# Altium schematic symbol library transistor-small-signal.SCHLIB: 62 symbols
Pins are listed as number, name and electrical type; pins without a type are passive.

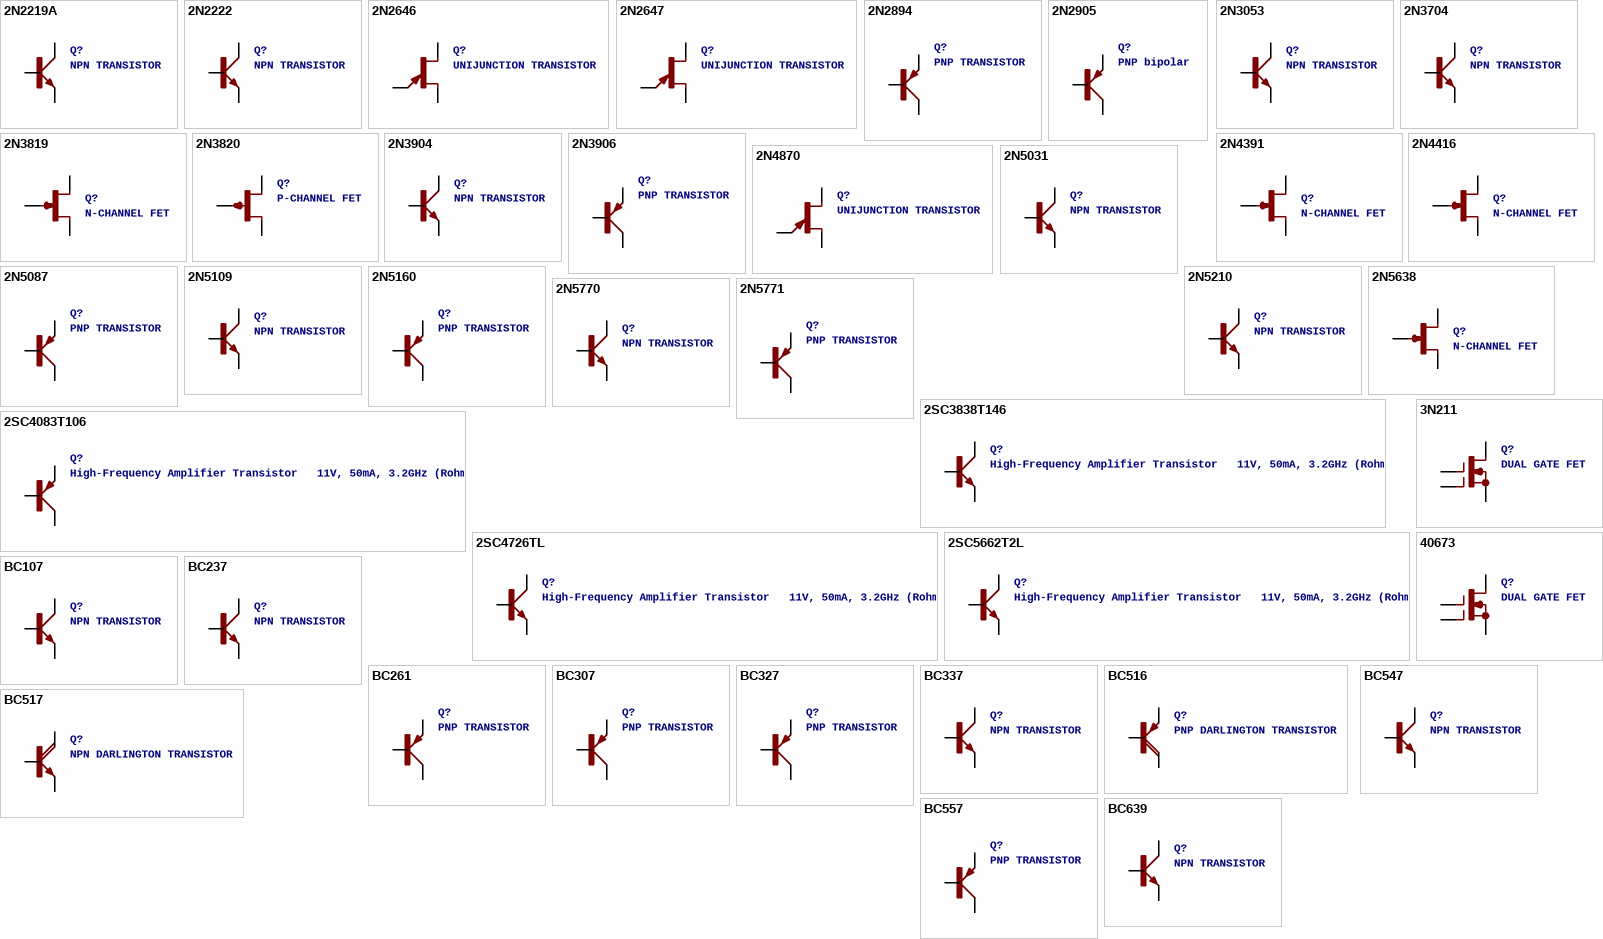
[diagram p0: symbols 2N2219A to BC639]

## 2N2219A
designator Q?, comment NPN TRANSISTOR
footprint TO5A
pins: B, C, E

## 2N2222
designator Q?, comment NPN TRANSISTOR
footprint TO18A
pins: B, C, E

## 2N2646
designator Q?, comment UNIJUNCTION TRANSISTOR
footprint TO72I
pins: B1, B2, E

## 2N2647
designator Q?, comment UNIJUNCTION TRANSISTOR
footprint TO72I
pins: B1, B2, E

## 2N2894
designator Q?, comment PNP TRANSISTOR
footprint TO18A
pins: B, C, E

## 2N2905
designator Q?, comment PNP bipolar
footprint TO39
pins: 1 E, 2 B, 3 C

## 2N3053
designator Q?, comment NPN TRANSISTOR
footprint TO39
pins: 1 E, 2 B, 3 C

## 2N3704
designator Q?, comment NPN TRANSISTOR
footprint TO92C
pins: B, C, E

## 2N3819
designator Q?, comment N-CHANNEL FET
footprint TO92F
pins: D, G, S

## 2N3820
designator Q?, comment P-CHANNEL FET
footprint TO92F
pins: D, G, S

## 2N3904
designator Q?, comment NPN TRANSISTOR
footprint TO92D
pins: B, C, E

## 2N3906
designator Q?, comment PNP TRANSISTOR
footprint TO92D
pins: B, C, E

## 2N4391
designator Q?, comment N-CHANNEL FET
footprint TO18E
pins: D, G, S

## 2N4416
designator Q?, comment N-CHANNEL FET
footprint TO72E
pins: D, G, S

## 2N4870
designator Q?, comment UNIJUNCTION TRANSISTOR
footprint TO92E
pins: B1, B2, E

## 2N5031
designator Q?, comment NPN TRANSISTOR
footprint TO72B
pins: B, C, E

## 2N5087
designator Q?, comment PNP TRANSISTOR
footprint TO92D
pins: B, C, E

## 2N5109
designator Q?, comment NPN TRANSISTOR
footprint TO5A
pins: B, C, E

## 2N5160
designator Q?, comment PNP TRANSISTOR
footprint TO5A
pins: B, C, E

## 2N5210
designator Q?, comment NPN TRANSISTOR
footprint TO92D
pins: B, C, E

## 2N5638
designator Q?, comment N-CHANNEL FET
footprint TO92G
pins: D, G, S

## 2N5770
designator Q?, comment NPN TRANSISTOR
footprint TO92D
pins: B, C, E

## 2N5771
designator Q?, comment PNP TRANSISTOR
footprint TO92D
pins: B, C, E

## 2SC3838T146
designator Q?, comment High-Frequency Amplifier Transistor   11V, 50mA, 3.2GHz (Rohm)
footprint SC59
pins: B, C, E

## 2SC4083T106
designator Q?, comment High-Frequency Amplifier Transistor   11V, 50mA, 3.2GHz (Rohm)
footprint SC70
pins: 1 B, 2 E, 3 C

## 2SC4726TL
designator Q?, comment High-Frequency Amplifier Transistor   11V, 50mA, 3.2GHz (Rohm)
footprint EMT3
pins: B, C, E

## 2SC5662T2L
designator Q?, comment High-Frequency Amplifier Transistor   11V, 50mA, 3.2GHz (Rohm)
footprint VMT3
pins: B, C, E

## 3N211
designator Q?, comment DUAL GATE FET
footprint TO72H
pins: D, G1, G2, S

## 40673
designator Q?, comment DUAL GATE FET
footprint TO72H
pins: D, G1, G2, S

## BC107
designator Q?, comment NPN TRANSISTOR
footprint TO18A
pins: B, C, E

## BC237
designator Q?, comment NPN TRANSISTOR
footprint SOT54A
pins: B, C, E

## BC261
designator Q?, comment PNP TRANSISTOR
footprint TO18A
pins: B, C, E

## BC307
designator Q?, comment PNP TRANSISTOR
footprint SOT54A
pins: B, C, E

## BC327
designator Q?, comment PNP TRANSISTOR
footprint SOT54A
pins: B, C, E

## BC337
designator Q?, comment NPN TRANSISTOR
footprint SOT54A
pins: B, C, E

## BC516
designator Q?, comment PNP DARLINGTON TRANSISTOR
footprint SOT54A
pins: B, C, E

## BC517
designator Q?, comment NPN DARLINGTON TRANSISTOR
footprint SOT54A
pins: B, C, E

## BC547
designator Q?, comment NPN TRANSISTOR
footprint SOT54A
pins: B, C, E

## BC557
designator Q?, comment PNP TRANSISTOR
footprint SOT54A
pins: B, C, E

## BC639
designator Q?, comment NPN TRANSISTOR
footprint SOT54D
pins: B, C, E

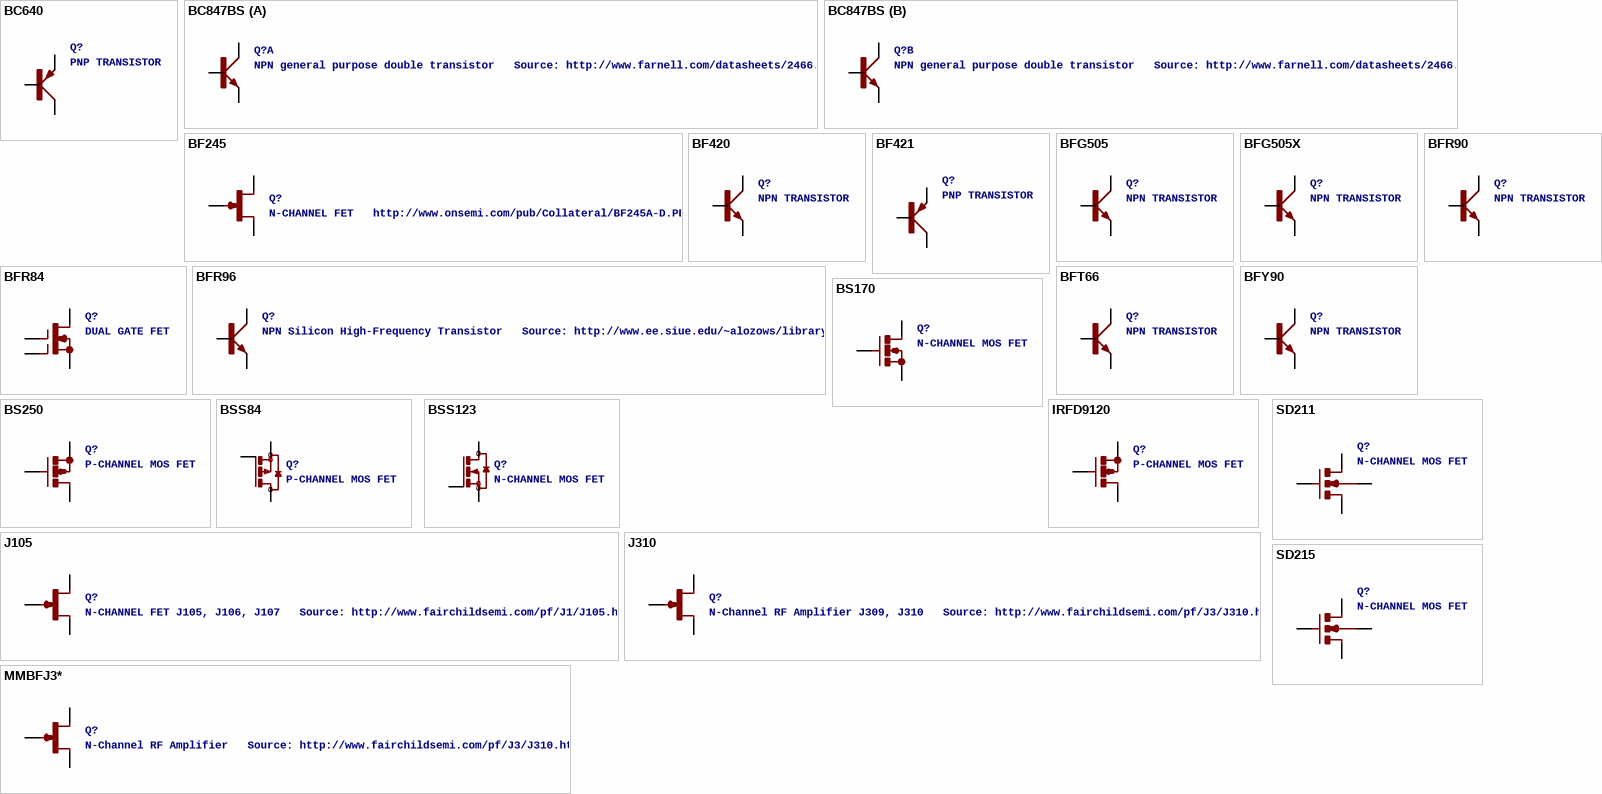
[diagram p1: symbols BC640 to SD215]

## BC640
designator Q?, comment PNP TRANSISTOR
footprint SOT54D
pins: B, C, E

## BC847BS
designator Q?, comment NPN general purpose double transistor   Source: http://www.farnell.com/datasheets/2466.pdf
footprint SOT363_PHILIPS
part A pins: 1 E, 2 B, 6 C
part B pins: 3 C, 4 E, 5 B

## BF245
designator Q?, comment N-CHANNEL FET   http://www.onsemi.com/pub/Collateral/BF245A-D.PDF
footprint SOT54C
pins: D, G, S

## BF420
designator Q?, comment NPN TRANSISTOR
footprint SOT54D
pins: B, C, E

## BF421
designator Q?, comment PNP TRANSISTOR
footprint SOT54D
pins: B, C, E

## BFG505
designator Q?, comment NPN TRANSISTOR
footprint SOT143B
pins: 1 C, 2 B, 3 4 E

## BFG505X
designator Q?, comment NPN TRANSISTOR
footprint SOT143B
pins: 1 C, 2 4 E, 3 B

## BFR84
designator Q?, comment DUAL GATE FET
footprint TO72H
pins: D, G1, G2, S

## BFR90
designator Q?, comment NPN TRANSISTOR
footprint SOT37
pins: 1 C, 2 E, 3 B

## BFR96
designator Q?, comment NPN Silicon High-Frequency Transistor   Source: http://www.ee.siue.edu/~alozows/library/datasheets/BFR96.pdf
footprint SOT37
pins: 1 C, 2 E, 3 B

## BFT66
designator Q?, comment NPN TRANSISTOR
footprint TO72A
pins: B, C, E

## BFY90
designator Q?, comment NPN TRANSISTOR
footprint TO72B
pins: B, C, E

## BS170
designator Q?, comment N-CHANNEL MOS FET
footprint SOT54E
pins: D, G, S

## BS250
designator Q?, comment P-CHANNEL MOS FET
footprint SOT54E
pins: D, G, S

## BSS84
designator Q?, comment P-CHANNEL MOS FET
footprint SOT23
pins: 1 G, 2 S, 3 D

## BSS123
designator Q?, comment N-CHANNEL MOS FET
footprint SOT23
pins: 1 G, 2 S, 3 D

## IRFD9120
designator Q?, comment P-CHANNEL MOS FET
footprint C370-01
pins: D D1 D, G, S

## J105
designator Q?, comment N-CHANNEL FET J105, J106, J107   Source: http://www.fairchildsemi.com/pf/J1/J105.html
footprint TO92R
pins: D, G, S

## J310
designator Q?, comment N-Channel RF Amplifier J309, J310   Source: http://www.fairchildsemi.com/pf/J3/J310.html
footprint TO92R
pins: D, G, S

## MMBFJ3*
designator Q?, comment N-Channel RF Amplifier   Source: http://www.fairchildsemi.com/pf/J3/J310.html
footprint SOT23
pins: 1 D, 2 S, 3 G

## SD211
designator Q?, comment N-CHANNEL MOS FET
footprint TO72G
pins: B, D, G, S

## SD215
designator Q?, comment N-CHANNEL MOS FET
footprint TO72G
pins: B, D, G, S